# Altium footprint library TO-247.PcbLib: 1 footprints
Each footprint in its own frame and in the unit in brackets; x right, y up, seen from the top. Pads: shape width x height; smd on the part's side, far side on the other; paste and mask are expansions set on the pad; w line width, h text height; cw(c..) or ccw(c..) is an arc to the next point about the centre after c.
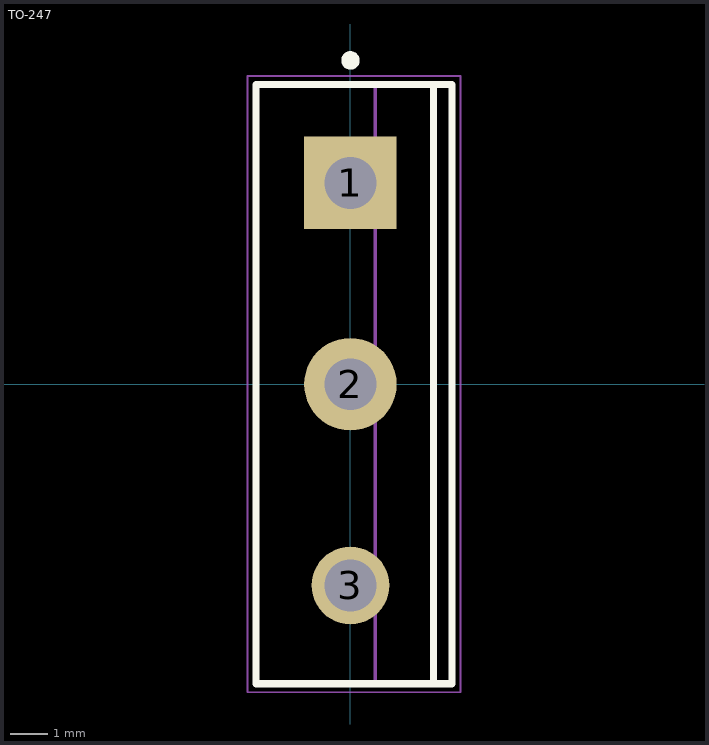
[diagram p0: the footprint, top view; thin cyan lines are the x and y axes]

## TO-247 [mm] "FM, 3-Leads, Body 5.02x15.94mm, Pitch 5.44mm"
height 25.5
pads (3):
  rect 2.5x2.5 hole 1.4: 1(0,5.44)
  round 2.5 hole 1.4: 2(0,0)
  round 2.1 hole 1.4: 3(0,-5.44)
Top Overlay:
  circle w0.25: c0,8.75 r0.125
  lines w0.2: 2.245,-8.1 2.245,8.1 ; -2.555,-8.1 -2.555,8.1 2.745,8.1 2.745,-8.1 -2.555,-8.1
Mechanical 13:
  lines w0.1: 0.67,-8.075 0.67,8.075 ; -2.53,-8.075 2.72,-8.075 2.72,8.075 -2.53,8.075 -2.53,-8.075
Mechanical 15:
  lines w0.05: -2.78,-8.325 2.97,-8.325 2.97,8.325 -2.78,8.325 -2.78,-8.325
  lines w0.1: -0.5,0 0.5,0 ; 0,-0.5 0,0.5
3D body "TO-247.STEP": height 32.07, standoff -3.22, extent -2.206,-7.75 2.794,7.75